# Altium schematic symbol library RC0603JR-070RL.SchLib: 1 symbol
Pins are listed as number, name and electrical type; pins without a type are passive.

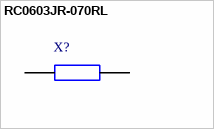
[diagram p0: symbol RC0603JR-070RL]

## RC0603JR-070RL
designator X?
YAGEO (PHYCOMP) - RC0603JR-070RL - RES, THICK FILM, 0R, 5%, 0.1W, 0603; Manufacturer_Name: KEMET; Geometry.Height: 0.55mm; Manufacturer_Part_Number: RC0603JR-070RL; Mouser Part Number: 603-RC0603JR-070RL; Mouser Price/Stock: https://www.mouser.co.uk/ProductDetail/YAGEO/RC0603JR-070RL?qs=2cAdsCoAWRGWyPcuXgGiXQ%3D%3D; Arrow Part Number: *; Arrow Price/Stock: *; Mouser Testing Part Number: *; Mouser Testing Price/Stock: *; Datasheet Link: https://datasheet.datasheetarchive.com/originals/distributors/Datasheets_SAMA/902f9e387b938f871d31120f5fc1d65e.pdf
footprint RESC1608X55N
pins: 1, 2